# Altium footprint library AP63203WU7.PcbLib: 1 footprints
Each footprint in its own frame and in the unit in brackets; x right, y up, seen from the top. Pads: shape width x height; smd on the part's side, far side on the other; paste and mask are expansions set on the pad; w line width, h text height; cw(c..) or ccw(c..) is an arc to the next point about the centre after c.
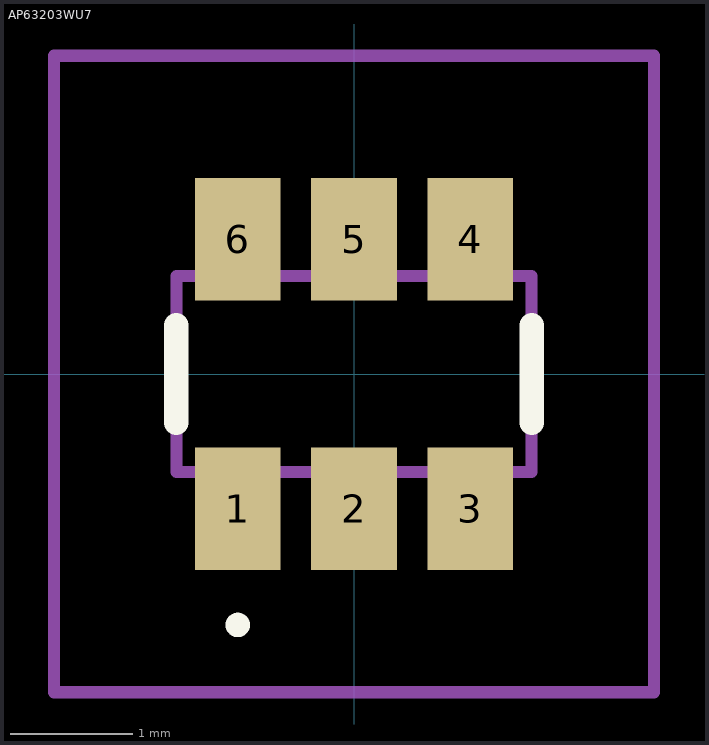
[diagram p0: the footprint, top view; thin cyan lines are the x and y axes]

## AP63203WU7 [mm]
pads (6):
  rect 0.7x1 smd: 1(-0.95,-1.099) 2(0,-1.099) 3(0.95,-1.099) 4(0.95,1.099) 5(0,1.099) 6(-0.95,1.099)
Top Overlay:
  lines w0.1: -0.95,-2.1 cw(c-0.95,-2.05) -0.95,-2 ; -0.95,-2.1 -0.95,-2.1 ; -0.95,-2.1 ccw(c-0.95,-2.05) -0.95,-2 ; -0.95,-2 -0.95,-2
  lines w0.2: -1.45,-0.4 -1.45,0.4 ; 1.45,-0.4 1.45,0.4
Mechanical 15:
  lines w0.1: -1.45,-0.8 1.45,-0.8 1.45,0.8 -1.45,0.8 -1.45,-0.8
Mechanical 20:
  lines w0.1: -2.45,-2.599 2.45,-2.599 2.45,2.599 -2.45,2.599 -2.45,-2.599